# EAGLE library part NMJ6HCD2 (library toslink)
STEREO JACK SOCKET BY NEUTRIK
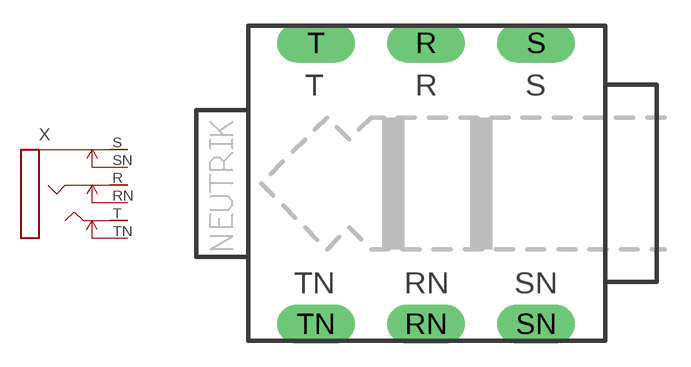
[diagram p14: symbol with the pads of NMJ6HCD2; footprint NMJ6HCD2]

Designator prefix X

## NMJ6HCD2  [NMJ6HCD2]
R  R  pas
RN  RN  pas
S  S  pas
SN  SN  pas
T  T  pas
TN  TN  pas

## Footprint NMJ6HCD2 (pad centres in mm)
NMJ6HCD2 PCB SOCKET
drill 1.5 long: R 0,8.115; RN 0,-8.115; S 6.35,8.115; SN 6.35,-8.115; T -6.35,8.115; TN -6.35,-8.115